# Altium schematic symbol library MMSZ18.Schlib: 1 symbol
Pins are listed as number, name and electrical type; pins without a type are passive.

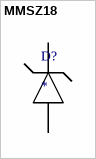
[diagram p0: symbol MMSZ18]

## MMSZ18
designator D?
ZENER 18 V
pins: 1 C, 2 A